# Altium footprint library Footprint-Lib-ABahlmann-CON.PcbLib: 53 footprints (part 2 of 4)
Each footprint in its own frame and in the unit in brackets; x right, y up, seen from the top. Pads: shape width x height; smd on the part's side, far side on the other; paste and mask are expansions set on the pad; w line width, h text height; cw(c..) or ccw(c..) is an arc to the next point about the centre after c.
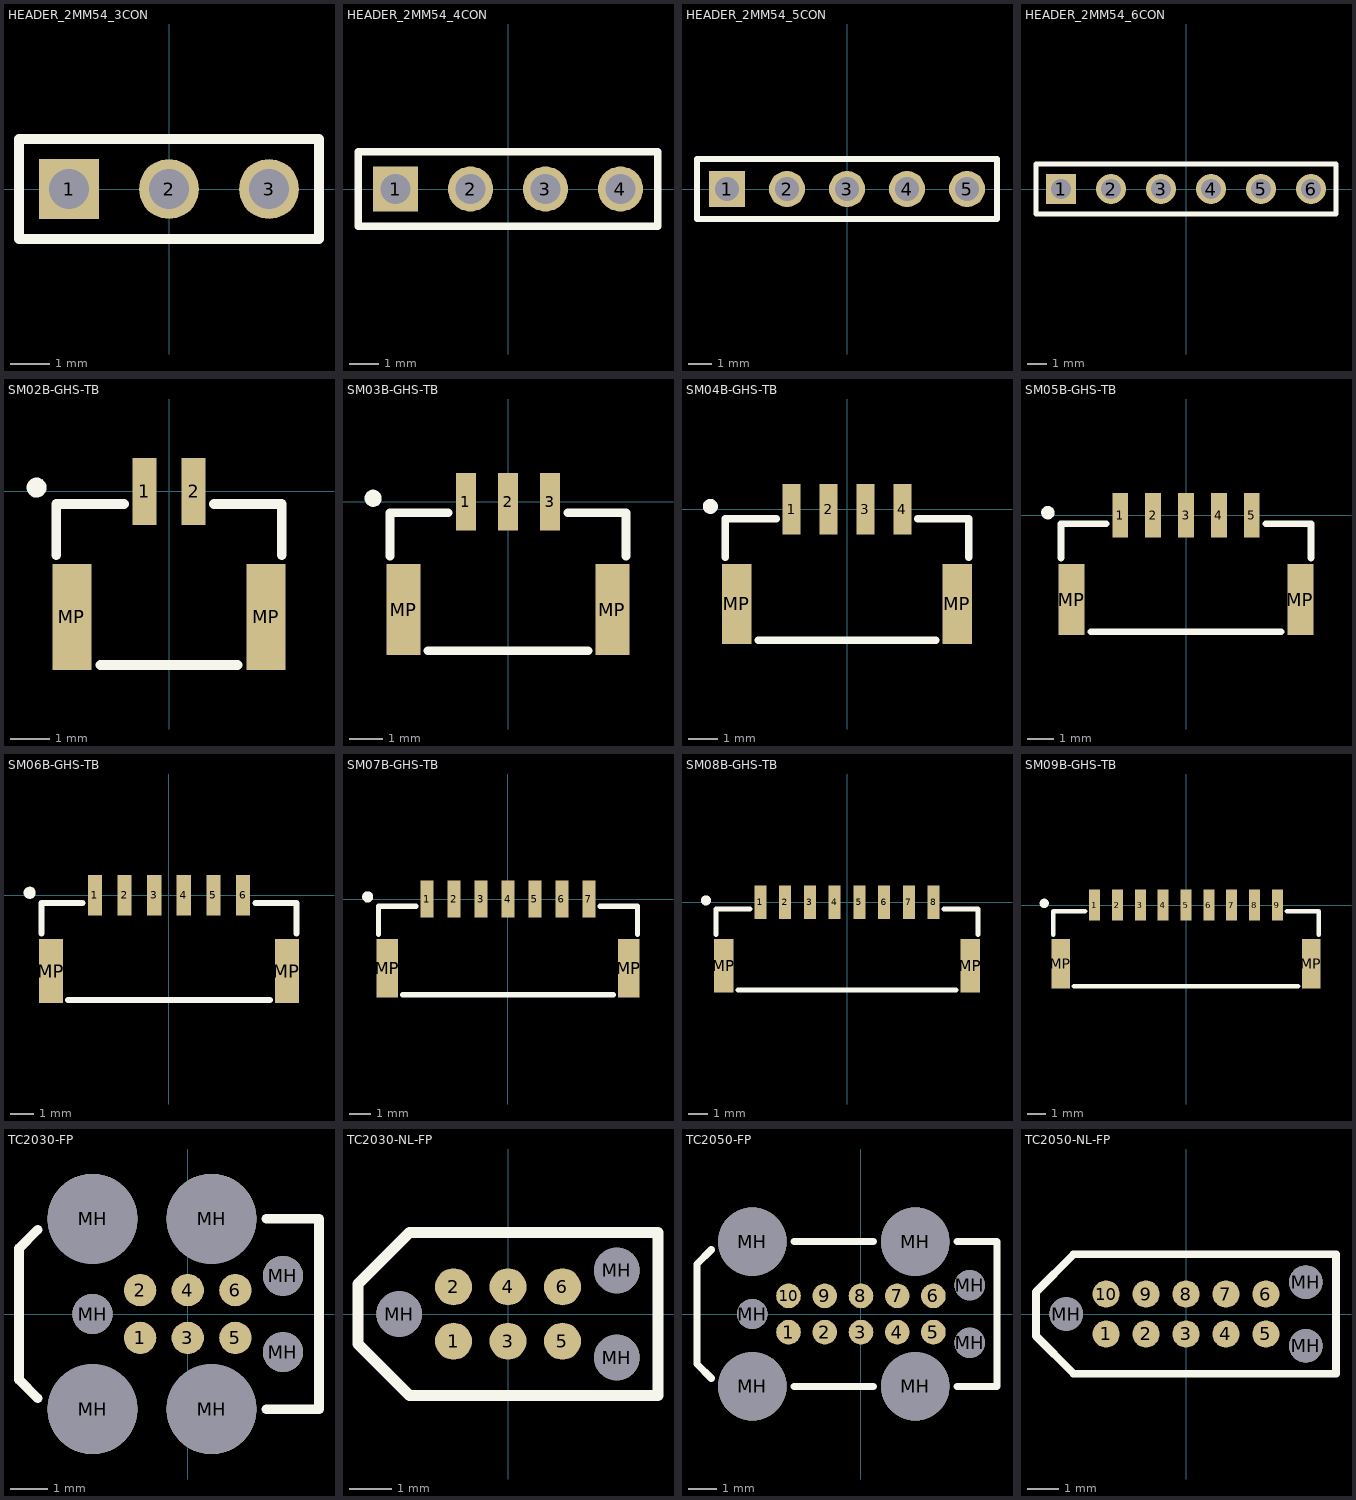
[diagram p1: the footprints below, top view; thin cyan lines are the x and y axes]

## HEADER_2MM54_3CON [mil] "Connector Header Through Hole 3 position 0.100\" (2.54mm)"
pads (3):
  rect 60x60 hole 40: 1(-100,0)
  round 60 hole 40: 2(0,0) 3(100,0)
Top Overlay:
  lines w10: -150,-50 150,-50 150,50 -150,50 -150,-50
3D body "1x3 TH Vert 100mil.step": height 329.92, standoff -129.92, extent -150,-50 150,50

## HEADER_2MM54_4CON [mil] "Connector Header Through Hole 4 position 0.100\" (2.54mm)"
pads (4):
  rect 60x60 hole 40: 1(-150,0)
  round 60 hole 40: 2(-50,0) 3(50,0) 4(150,0)
Top Overlay:
  lines w10: -200,-50 200,-50 200,50 -200,50 -200,-50
3D body "1x4 TH Vert 100mil.step": height 329.92, standoff -129.92, extent -200,-50 200,50

## HEADER_2MM54_5CON [mil] "Connector Header Through Hole 5 position 0.100\" (2.54mm)"
pads (5):
  rect 60x60 hole 40: 1(-200,0)
  round 60 hole 40: 2(-100,0) 3(0,0) 4(100,0) 5(200,0)
Top Overlay:
  lines w10: -250,-50 250,-50 250,50 -250,50 -250,-50
3D body "1x5 TH Vert 100mil.step": height 329.92, standoff -129.92, extent -250,-50 250,50

## HEADER_2MM54_6CON [mil] "Connector Header Through Hole 6 position 0.100\" (2.54mm)"
pads (6):
  rect 60x60 hole 40: 1(-250,0)
  round 60 hole 40: 2(-150,0) 3(-50,0) 4(50,0) 5(150,0) 6(250,0)
Top Overlay:
  lines w10: -300,-50 300,-50 300,50 -300,50 -300,-50
3D body "1x6 TH Vert 100mil.step": height 329.92, standoff -129.92, extent -300,-50 300,50

## SM02B-GHS-TB [mm]
pads (4):
  rect 0.6x1.7 smd: 1(-0.625,0) 2(0.625,0)
  rect 1x2.7 smd: MP(-2.475,-3.2) MP(2.475,-3.2)
Top Overlay:
  circle w0.254: c-3.375,0.1 r0.127
  lines w0.254: -2.875,-1.625 -2.875,-0.325 -1.15,-0.325 ; -1.75,-4.425 1.75,-4.425 ; 1.15,-0.325 2.875,-0.325 2.875,-1.625
3D body "SM02B-GHS-TB.stp": height 4.31, standoff 0.01, extent -2.875,-4.425 2.875,0.425

## SM03B-GHS-TB [mm]
pads (5):
  rect 0.6x1.7 smd: 1(-1.25,0) 2(0,0) 3(1.25,0)
  rect 1x2.7 smd: MP(-3.1,-3.2) MP(3.1,-3.2)
Top Overlay:
  circle w0.254: c-4,0.1 r0.127
  lines w0.254: -3.5,-1.625 -3.5,-0.325 -1.775,-0.325 ; -2.375,-4.425 2.375,-4.425 ; 1.775,-0.325 3.5,-0.325 3.5,-1.625
3D body "SM03B-GHS-TB.stp": height 4.31, standoff 0.01, extent -3.5,-4.425 3.5,0.425

## SM04B-GHS-TB [mm]
pads (6):
  rect 0.6x1.7 smd: 1(-1.875,0) 2(-0.625,0) 3(0.625,0) 4(1.875,0)
  rect 1x2.7 smd: MP(-3.725,-3.2) MP(3.725,-3.2)
Top Overlay:
  circle w0.254: c-4.625,0.1 r0.127
  lines w0.254: -4.125,-1.625 -4.125,-0.325 -2.4,-0.325 ; -3,-4.425 3,-4.425 ; 2.4,-0.325 4.125,-0.325 4.125,-1.625
3D body "SM04B-GHS-TB.stp": height 4.31, standoff 0.01, extent -4.125,-4.425 4.125,0.425

## SM05B-GHS-TB [mm]
pads (7):
  rect 0.6x1.7 smd: 1(-2.5,0) 2(-1.25,0) 3(0,0) 4(1.25,0) 5(2.5,0)
  rect 1x2.7 smd: MP(-4.35,-3.2) MP(4.35,-3.2)
Top Overlay:
  circle w0.254: c-5.25,0.1 r0.127
  lines w0.254: -4.75,-1.625 -4.75,-0.325 -3.025,-0.325 ; -3.625,-4.425 3.625,-4.425 ; 3.025,-0.325 4.75,-0.325 4.75,-1.625
3D body "SM05B-GHS-TB.stp": height 4.31, standoff 0.01, extent -4.75,-4.425 4.75,0.425

## SM06B-GHS-TB [mm]
pads (8):
  rect 0.6x1.7 smd: 1(-3.125,0) 2(-1.875,0) 3(-0.625,0) 4(0.625,0) 5(1.875,0) 6(3.125,0)
  rect 1x2.7 smd: MP(-4.975,-3.2) MP(4.975,-3.2)
Top Overlay:
  circle w0.254: c-5.875,0.1 r0.127
  lines w0.254: -5.375,-1.625 -5.375,-0.325 -3.65,-0.325 ; -4.25,-4.425 4.25,-4.425 ; 3.65,-0.325 5.375,-0.325 5.375,-1.625
3D body "SM06B-GHS-TB.stp": height 4.31, standoff 0.01, extent -5.375,-4.425 5.375,0.425

## SM07B-GHS-TB [mm]
pads (9):
  rect 0.6x1.7 smd: 1(-3.75,0) 2(-2.5,0) 3(-1.25,0) 4(0,0) 5(1.25,0) 6(2.5,0) 7(3.75,0)
  rect 1x2.7 smd: MP(-5.6,-3.2) MP(5.6,-3.2)
Top Overlay:
  circle w0.254: c-6.5,0.1 r0.127
  lines w0.254: -6,-1.625 -6,-0.325 -4.275,-0.325 ; -4.875,-4.425 4.875,-4.425 ; 4.275,-0.325 6,-0.325 6,-1.625
3D body "SM07B-GHS-TB.stp": height 4.31, standoff 0.01, extent -6,-4.425 6,0.425

## SM08B-GHS-TB [mm]
pads (10):
  rect 0.6x1.7 smd: 1(-4.375,0) 2(-3.125,0) 3(-1.875,0) 4(-0.625,0) 5(0.625,0) 6(1.875,0) 7(3.125,0) 8(4.375,0)
  rect 1x2.7 smd: MP(-6.225,-3.2) MP(6.225,-3.2)
Top Overlay:
  circle w0.254: c-7.125,0.1 r0.127
  lines w0.254: -6.625,-1.625 -6.625,-0.325 -4.9,-0.325 ; -5.5,-4.425 5.5,-4.425 ; 4.9,-0.325 6.625,-0.325 6.625,-1.625
3D body "SM08B-GHS-TB.stp": height 4.31, standoff 0.01, extent -6.625,-4.425 6.625,0.425

## SM09B-GHS-TB [mm]
pads (11):
  rect 0.6x1.7 smd: 1(-5,0) 2(-3.75,0) 3(-2.5,0) 4(-1.25,0) 5(0,0) 6(1.25,0) 7(2.5,0) 8(3.75,0) 9(5,0)
  rect 1x2.7 smd: MP(-6.85,-3.2) MP(6.85,-3.2)
Top Overlay:
  circle w0.254: c-7.75,0.1 r0.127
  lines w0.254: -7.25,-1.625 -7.25,-0.325 -5.525,-0.325 ; -6.125,-4.425 6.125,-4.425 ; 5.525,-0.325 7.25,-0.325 7.25,-1.625
3D body "SM09B-GHS-TB.stp": height 4.26, standoff -0.04, extent -7.25,-4.425 7.25,0.425

## TC2030-FP [mm]
pads (13):
  round 0.863 smd paste-0.432: 1(-1.27,-0.635) 2(-1.27,0.635) 3(0,-0.635) 4(0,0.635) 5(1.27,-0.635) 6(1.27,0.635)
  round 2.4 hole 2.4: MH(-2.54,-2.54) MH(-2.54,2.54) MH(0.635,-2.54) MH(0.635,2.54)
  round 1.067 hole 1.067: MH(-2.54,0) MH(2.54,-1.016) MH(2.54,1.016)
Top Overlay:
  lines w0.254: -4,-2.25 -4.5,-1.75 -4.5,1.75 -4,2.25 ; 2.097,-2.54 3.5,-2.54 3.5,2.54 2.097,2.54 ; -2.3,1.9 ccw(c-2.3,1.9) -2.3,1.9 ; -2.3,1.9 ccw(c-2.3,1.9) -2.3,1.9 ; -2.3,-1.9 ccw(c-2.3,-1.9) -2.3,-1.9

## TC2030-NL-FP [mil]
pads (9):
  round 33.98 smd paste-17.01: 1(-50,-25) 2(-50,25) 3(0,-25) 4(0,25) 5(50,-25) 6(50,25)
  round 42.01 hole 42.01: MH(-100,0) MH(100,-40) MH(100,40)
Top Overlay:
  lines w10: -137.8,-27.56 ccw(c-137.8,-27.56) -137.8,-27.56 ; -137.8,-27.56 -90.55,-74.8 ; -137.8,-27.56 -137.8,27.56 ; -137.8,27.56 ccw(c-137.79,27.56) -137.79,27.56 ; -137.8,27.56 ccw(c-137.8,27.56) -137.8,27.56 ; -137.79,27.56 -90.55,74.8 ; -90.55,-74.8 ccw(c-90.55,-74.8) -90.55,-74.8 ; -90.55,-74.8 137.8,-74.8 137.8,74.8 -90.55,74.8 ; -90.55,74.8 ccw(c-90.55,74.8) -90.55,74.8 ; -90.55,74.8 ccw(c-90.55,74.8) -90.55,74.8

## TC2050-FP [mm]
pads (17):
  round 0.863 smd paste-0.432: 1(-2.54,-0.635) 2(-1.27,-0.635) 3(0,-0.635) 4(1.27,-0.635) 5(2.54,-0.635) 6(2.54,0.635) 7(1.27,0.635) 8(0,0.635) 9(-1.27,0.635) 10(-2.54,0.635)
  round 2.4 hole 2.4: MH(-3.81,-2.54) MH(-3.81,2.54) MH(1.905,-2.54) MH(1.905,2.54)
  round 1.067 hole 1.067: MH(-3.81,0) MH(3.81,-1.015) MH(3.81,1.015)
Top Overlay:
  lines w0.254: -5.75,-1.75 -5.75,1.75 ; -5.75,-1.75 -5.25,-2.25 ; -5.75,1.75 -5.25,2.25 ; -2.34,-2.54 0.435,-2.54 ; -2.34,2.54 0.435,2.54 ; 3.367,-2.54 4.77,-2.54 4.77,2.54 3.367,2.54
3D body "TAG_CONNECT_TC2050-IDC.STEP": height 29.28, standoff -2.99, extent -6.222,-4.173 6.223,4.173

## TC2050-NL-FP [mm]
pads (13):
  round 0.863 smd paste-0.432: 1(-2.54,-0.635) 2(-1.27,-0.635) 3(0,-0.635) 4(1.27,-0.635) 5(2.54,-0.635) 6(2.54,0.635) 7(1.27,0.635) 8(0,0.635) 9(-1.27,0.635) 10(-2.54,0.635)
  round 1.067 hole 1.067: MH(-3.81,0) MH(3.81,-1.015) MH(3.81,1.015)
Top Overlay:
  lines w0.254: -4.77,-0.7 -3.57,-1.9 4.77,-1.9 4.77,1.9 -3.57,1.9 -4.77,0.7 -4.77,-0.7
3D body "TAG_CONNECT_TC2050-IDC-NL.STEP": height 29.28, standoff -2.99, extent -6.222,-3.365 6.223,3.365